# EAGLE library part HEADER-12P-1R (library deiring-components)
Header 12 Pin 1 Row
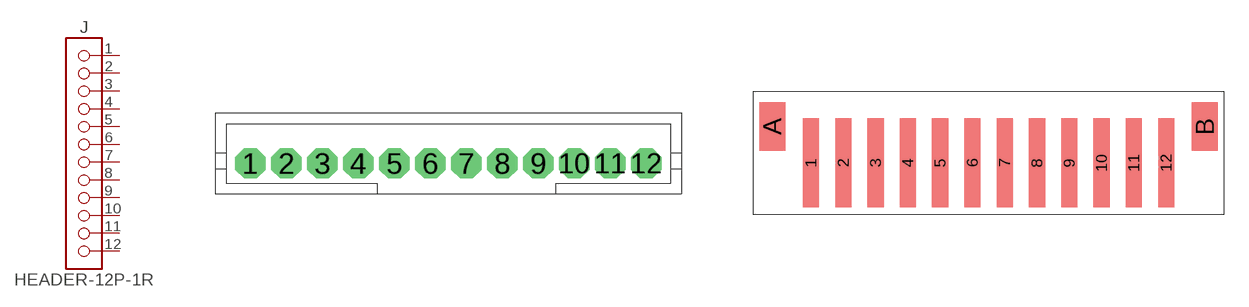
[diagram p0: symbol with the pads of JST-B12B-PH-K-S; footprints JST-B12B-PH-K-S, JST-B12B-PH-SM4-TB]

Designator prefix J

## HEADER-12P-1R-B12B-PH-K-S (LCSC: C158028; MF: JST Sales America; MPN: B12B-PH-K-S(LF)(SN); VALUE: 12P)  [JST-B12B-PH-K-S]
1  01  pas
2  02  pas
3  03  pas
4  04  pas
5  05  pas
6  06  pas
7  07  pas
8  08  pas
9  09  pas
10  10  pas
11  11  pas
12  12  pas

## HEADER-12P-1R-B12B-PH-SM4-TB (LCSC: C545752; MF: JST Sales America; MPN: B12B-PH-SM4-TB(LF)(SN); VALUE: 12P)  [JST-B12B-PH-SM4-TB]
Pads as for JST-B12B-PH-K-S

## HEADER-12P-1R-S12B-PH-K-S (LCSC: C157943; MF: JST Sales America; MPN: S12B-PH-K-S(LF)(SN); VALUE: 12P)  [JST-S12B-PH-K-S]
Pads as for JST-B12B-PH-K-S

## HEADER-12P-1R-S12B-PH-SM4-TB (LCSC: C378994; MF: JST Sales America; MPN: S12B-PH-SM4-TB(LF)(SN); VALUE: 12P)  [JST-S12B-PH-SM4-TB]
Pads as for JST-B12B-PH-K-S

## HEADER-12P-1R-KF2EDGV-5.08-12P (MF: Cixi Kefa Elec; MPN: KF2EDGV-5.08-12P; VALUE: 12P)  [KF2EDGV-5.08-12P]
Pads as for JST-B12B-PH-K-S

## HEADER-12P-1R-WJ15EDGVC-3.81-12P (LCSC: C18979; MF: Ningbo Kangnex Elec; MPN: WJ15EDGVC-3.81-12P; VALUE: 12P)  [WJ15EDGVC-3.81-12P]
Pads as for JST-B12B-PH-K-S

## HEADER-12P-1R-KF2EDGR-5.08-12P (MF: Cixi Kefa Elec; MPN: KF2EDGR-5.08-12P; VALUE: 12P)  [KF2EDGR-5.08-12P]
Pads as for JST-B12B-PH-K-S

## Footprint JST-B12B-PH-K-S (pad centres in mm)
drill 0.813 pad 1.676 octagon: 1 -11,0; 2 -9,0; 3 -7,0; 4 -5,0; 5 -3,0; 6 -1,0; 7 1,0; 8 3,0; 9 5,0; 10 7,0; 11 9,0; 12 11,0

## Footprint JST-B12B-PH-SM4-TB (pad centres in mm)
smd 1 x 5.5: 1 -11,0; 2 -9,0; 3 -7,0; 4 -5,0; 5 -3,0; 6 -1,0; 7 1,0; 8 3,0; 9 5,0; 10 7,0; 11 9,0; 12 11,0
smd 1.6 x 3: A -13.4,2.25; B 13.4,2.25

## Footprint JST-S12B-PH-K-S (pad centres in mm)
drill 0.813 pad 1.676 octagon: 1 -11,0; 2 -9,0; 3 -7,0; 4 -5,0; 5 -3,0; 6 -1,0; 7 1,0; 8 3,0; 9 5,0; 10 7,0; 11 9,0; 12 11,0

## Footprint JST-S12B-PH-SM4-TB (pad centres in mm)
smd 1 x 3.5: 1 -11,0; 2 -9,0; 3 -7,0; 4 -5,0; 5 -3,0; 6 -1,0; 7 1,0; 8 3,0; 9 5,0; 10 7,0; 11 9,0; 12 11,0
smd 1.5 x 3.4: A -13.35,5.55; B 13.35,5.55

## Footprint KF2EDGV-5.08-12P (pad centres in mm)
drill 1.6: 1 -27.94,0; 2 -22.86,0; 3 -17.78,0; 4 -12.7,0; 5 -7.62,0; 6 -2.54,0; 7 2.54,0; 8 7.62,0; 9 12.7,0; 10 17.78,0; 11 22.86,0; 12 27.94,0

## Footprint WJ15EDGVC-3.81-12P (pad centres in mm)
drill 1.2 pad 2: 1 -19.05,0; 2 -15.24,0; 3 -11.43,0; 4 -7.62,0; 5 -3.81,0; 6 0,0; 7 3.81,0; 8 7.62,0; 9 11.43,0; 10 15.24,0; 11 19.05,0; 12 22.86,0

## Footprint KF2EDGR-5.08-12P (pad centres in mm)
drill 1.6: 1 -27.94,0; 2 -22.86,0; 3 -17.78,0; 4 -12.7,0; 5 -7.62,0; 6 -2.54,0; 7 2.54,0; 8 7.62,0; 9 12.7,0; 10 17.78,0; 11 22.86,0; 12 27.94,0